# EAGLE library part RPI-ZERO (library RPI-Zero)
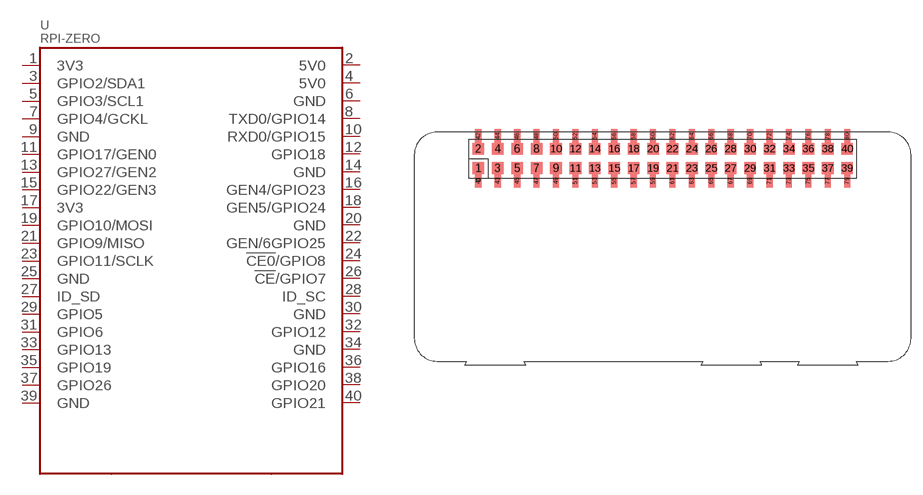
[diagram p0: symbol with the pads of RASPBERRYPI_BASTELSTUBE_V13_RASPI_BOARD_B+_FULL; footprint RASPBERRYPI_BASTELSTUBE_V13_RASPI_BOARD_B+_FULL]

Designator prefix -

## RPI-ZERO  [RASPBERRYPI_BASTELSTUBE_V13_RASPI_BOARD_B+_FULL]
1  3V3  sup
2  5V0  sup
3  GPIO2/SDA1
4  5V0  sup
5  GPIO3/SCL1
6  GND  sup
7  GPIO4/GCKL
8  TXD0/GPIO14
9  GND  sup
10  RXD0/GPIO15
11  GPIO17/GEN0
12  GPIO18
13  GPIO27/GEN2
14  GND  sup
15  GPIO22/GEN3
16  GEN4/GPIO23
17  3V3  sup
18  GEN5/GPIO24
19  GPIO10/MOSI
20  GND  sup
21  GPIO9/MISO
22  GEN/6GPIO25
23  GPIO11/SCLK
24  !CE0!/GPIO8
25  GND  sup
26  !CE!/GPIO7
27  ID_SD
28  ID_SC
29  GPIO5
30  GND  sup
31  GPIO6
32  GPIO12
33  GPIO13
34  GND  sup
35  GPIO19
36  GPIO16
37  GPIO26
38  GPIO20
39  GND  sup
40  GPIO21

## Footprint RASPBERRYPI_BASTELSTUBE_V13_RASPI_BOARD_B+_FULL (pad centres in mm)
Raspberry Pi board model B+, full outline with position of big connectors & drill holes
smd 1.524 x 1.524: 1 8.382,25.273; 2 8.382,27.813; 3 10.922,25.273; 4 10.922,27.813; 5 13.462,25.273; 6 13.462,27.813; 7 16.002,25.273; 8 16.002,27.813; 9 18.542,25.273; 10 18.542,27.813; 11 21.082,25.273; 12 21.082,27.813; 13 23.622,25.273; 14 23.622,27.813; 15 26.162,25.273; 16 26.162,27.813; 17 28.702,25.273; 18 28.702,27.813; 19 31.242,25.273; 20 31.242,27.813; 21 33.782,25.273; 22 33.782,27.813; 23 36.322,25.273; 24 36.322,27.813; 25 38.862,25.273; 26 38.862,27.813; 27 41.402,25.273; 28 41.402,27.813; 29 43.942,25.273; 30 43.942,27.813; 31 46.482,25.273; 32 46.482,27.813; 33 49.022,25.273; 34 49.022,27.813; 35 51.562,25.273; 36 51.562,27.813; 37 54.102,25.273; 38 54.102,27.813; 39 56.642,25.273; 40 56.642,27.813
smd 0.813 x 1.778: 41 8.382,23.622; 42 8.382,29.464; 43 10.922,23.622; 44 10.922,29.464; 45 13.462,23.622; 46 13.462,29.464; 47 16.002,23.622; 48 16.002,29.464; 49 18.542,23.622; 50 18.542,29.464; 51 21.082,23.622; 52 21.082,29.464; 53 23.622,23.622; 54 23.622,29.464; 55 26.162,23.622; 56 26.162,29.464; 57 28.702,23.622; 58 28.702,29.464; 59 31.242,23.622; 60 31.242,29.464; 61 33.782,23.622; 62 33.782,29.464; 63 36.322,23.622; 64 36.322,29.464; 65 38.862,23.622; 66 38.862,29.464; 67 41.402,23.622; 68 41.402,29.464; 69 43.942,23.622; 70 43.942,29.464; 71 46.482,23.622; 72 46.482,29.464; 73 49.022,23.622; 74 49.022,29.464; 75 51.562,23.622; 76 51.562,29.464; 77 54.102,23.622; 78 54.102,29.464; 79 56.642,23.622; 80 56.642,29.464